# EAGLE library part MP1482DS (library SOIC127P600X175-8N)
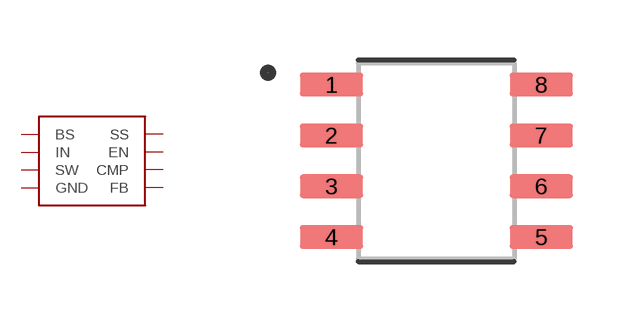
[diagram p0: symbol with the pads of SOIC127P600X175-8N; footprint SOIC127P600X175-8N]

Designator prefix -

## MP1482DS  [SOIC127P600X175-8N]
1  BS
2  IN  pwr
3  SW
4  GND  pwr
5  FB
6  CMP
7  EN
8  SS

## Footprint SOIC127P600X175-8N (pad centres in mm)
smd 1.58 x 0.59: 1 -2.625,1.905; 2 -2.625,0.635; 3 -2.625,-0.635; 4 -2.625,-1.905; 5 2.625,-1.905; 6 2.625,-0.635; 7 2.625,0.635; 8 2.625,1.905